# Altium footprint library 87831-0441.PcbLib: 1 footprints
Each footprint in its own frame and in the unit in brackets; x right, y up, seen from the top. Pads: shape width x height; smd on the part's side, far side on the other; paste and mask are expansions set on the pad; w line width, h text height; cw(c..) or ccw(c..) is an arc to the next point about the centre after c.
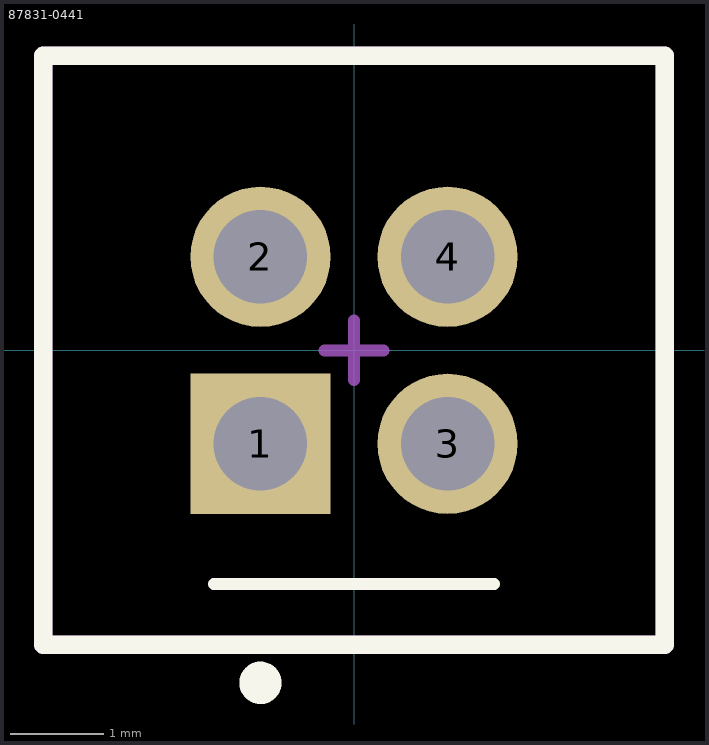
[diagram p0: the footprint, top view; thin cyan lines are the x and y axes]

## 87831-0441 [mm]
pads (4):
  rect 1.5x1.5 hole 1 mask+0.051: 1(-1,-1)
  round 1.5 hole 1 mask+0.051: 2(-1,1) 3(1,-1) 4(1,1)
Top Overlay:
  circle w0.254: c-1,-3.556 r0.1
  lines w0.127: -1.5,-2.5 1.5,-2.5
  lines w0.2: -3.325,-3.15 -3.325,3.15 3.325,3.15 3.325,-3.15 -3.325,-3.15
Mechanical 13:
  lines w0.2: -3.325,-3.15 -3.325,3.15 3.325,3.15 3.325,-3.15 -3.325,-3.15
Mechanical 15:
  lines w0.127: -0.318,0 0.318,0 ; 0,-0.318 0,0.318
3D body "878310441.stp": height 6.41, standoff -2.49, extent -3.325,-3.15 3.325,3.15